# Altium footprint library FSFDK 4_4.PcbLib: 1 footprints
Each footprint in its own frame and in the unit in brackets; x right, y up, seen from the top. Pads: shape width x height; smd on the part's side, far side on the other; paste and mask are expansions set on the pad; w line width, h text height; cw(c..) or ccw(c..) is an arc to the next point about the centre after c.
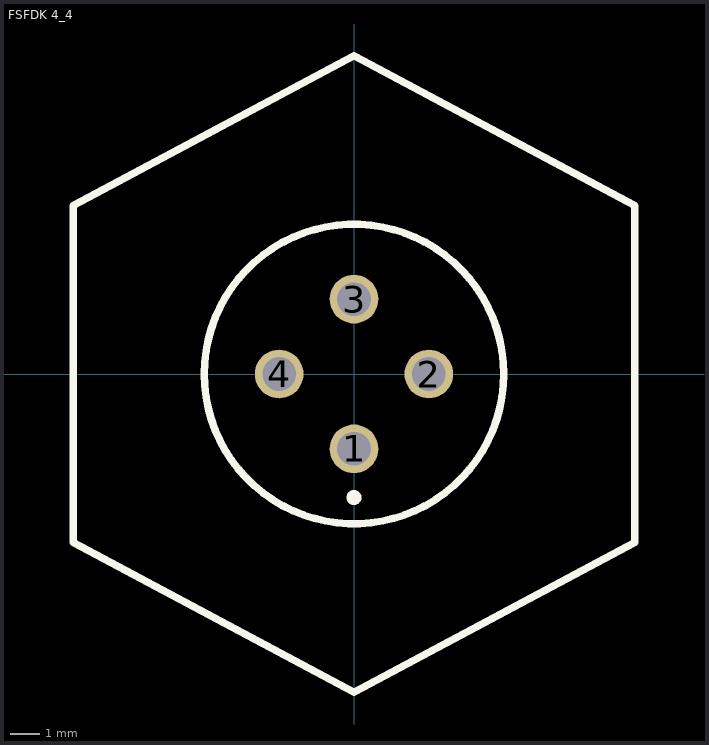
[diagram p0: the footprint, top view; thin cyan lines are the x and y axes]

## FSFDK 4_4 [mil]
pads (4):
  round 65 hole 45: 1(0,-100) 2(100,0) 3(0,100) 4(-100,0)
Top Overlay:
  circle w10: c0,-165 r5
  circle w10: c0,0 r200
  lines w10: -375,-225 -375,225 0,425 375,225 375,-225 0,-425 -375,-225
3D body: height 1011.46, standoff -161.77, extent -374.02,-423.2 374.01,423.2